# EAGLE library part BNO055 (library YonderDeep)
BNO055 9-axis Absolute Orientation Sensor ( SiP ) w/Sensors and Sensor Fusion
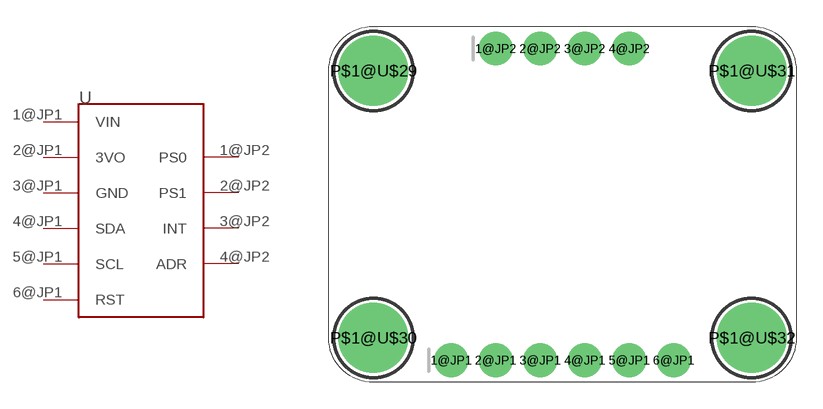
[diagram p1: symbol with the pads of BNO055; footprint BNO055]

Designator prefix U

## BNO055  [BNO055]
1@JP1  VIN
1@JP2  PS0
2@JP1  3VO
2@JP2  PS1
3@JP1  GND
3@JP2  INT
4@JP1  SDA
4@JP2  ADR
5@JP1  SCL
6@JP1  RST

## Footprint BNO055 (pad centres in mm)
Package generated by make-group2pac.ulp from: C:/Users/Rich Unite/Documents/EAGLE/projects/YD_BNO055/untitled.brd at: 2/12/2019 10:04 AM
drill 1 pad 1.93: 1@JP1 6.985,1.27; 1@JP2 9.525,19.05; 2@JP1 9.525,1.27; 2@JP2 12.065,19.05; 3@JP1 12.065,1.27; 3@JP2 14.605,19.05; 4@JP1 14.605,1.27; 4@JP2 17.145,19.05; 5@JP1 17.145,1.27; 6@JP1 19.685,1.27
drill 2.5 pad 4: P$1@U$29 2.54,17.78; P$1@U$30 2.54,2.54; P$1@U$31 24.13,17.78; P$1@U$32 24.13,2.54